# Altium schematic symbol library NetTie.Schlib: 1 symbol
Pins are listed as number, name and electrical type; pins without a type are passive.

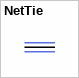
[diagram p0: symbol NetTie]

## NetTie
designator NT?  (value not drawn)  (net tie, no BOM)
pins: 1, 2
1 alternate drawing of the same symbol